# Altium footprint library PCB - LEADED - SOIC127P780X200-16N.PCBLIB: 1 footprints
Each footprint in its own frame and in the unit in brackets; x right, y up, seen from the top. Pads: shape width x height; smd on the part's side, far side on the other; paste and mask are expansions set on the pad; w line width, h text height; cw(c..) or ccw(c..) is an arc to the next point about the centre after c.
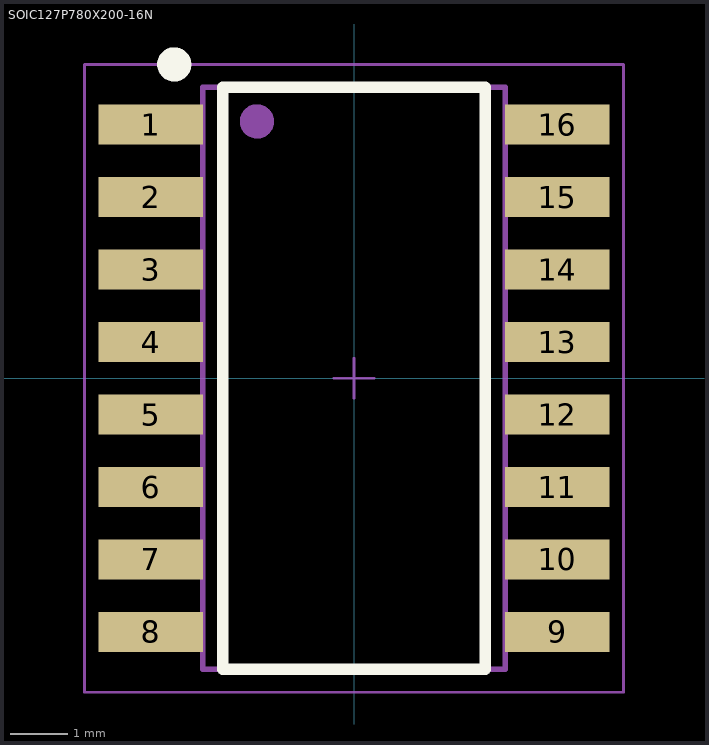
[diagram p0: the footprint, top view; thin cyan lines are the x and y axes]

## SOIC127P780X200-16N [mm]
pads (16):
  rect 1.825x0.7 smd: 1(-3.562,4.445) 2(-3.562,3.175) 3(-3.562,1.905) 4(-3.562,0.635) 5(-3.562,-0.635) 6(-3.562,-1.905) 7(-3.562,-3.175) 8(-3.562,-4.445) 9(3.562,-4.445) 10(3.562,-3.175) 11(3.562,-1.905) 12(3.562,-0.635) 13(3.562,0.635) 14(3.562,1.905) 15(3.562,3.175) 16(3.562,4.445)
Top Overlay:
  circle w0.3: c-3.15,5.5 r0.15
  lines w0.2: -2.3,-5.1 -2.3,5.1 2.3,5.1 2.3,-5.1 -2.3,-5.1
Top Assembly:
  circle w0.3: c-1.7,4.5 r0.15
  lines w0.1: -2.65,-5.1 -2.65,5.1 2.65,5.1 2.65,-5.1 -2.65,-5.1
Top Courtyard:
  lines w0.05: -4.725,-5.5 -4.725,5.5 4.725,5.5 4.725,-5.5 -4.725,-5.5
Top Designator:
  text ".Designator" at -0.7,1.4 h0.76
Top Component Center:
  lines w0.05: -0.35,0 0.35,0 ; 0,-0.35 0,0.35
3D body: height 2, standoff 0, extent -3.9,-5.1 3.9,5.1